# Altium footprint library TSSOP14.PcbLib: 1 footprints
Each footprint in its own frame and in the unit in brackets; x right, y up, seen from the top. Pads: shape width x height; smd on the part's side, far side on the other; paste and mask are expansions set on the pad; w line width, h text height; cw(c..) or ccw(c..) is an arc to the next point about the centre after c.
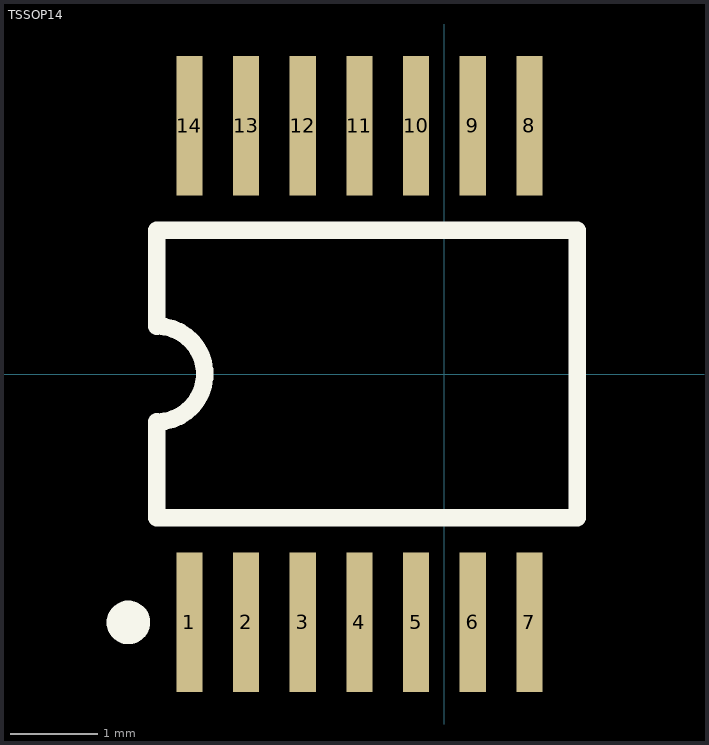
[diagram p0: the footprint, top view; thin cyan lines are the x and y axes]

## TSSOP14 [mm] "Shrink Small Outline; 14 Leads; Body Width 4.4 mm; Pitch 0.65 mm"
height 1.1
pads (14):
  rect 0.3x1.6 smd: 1(-2.925,-2.85) 2(-2.275,-2.85) 3(-1.625,-2.85) 4(-0.975,-2.85) 5(-0.325,-2.85) 6(0.325,-2.85) 7(0.975,-2.85) 8(0.975,2.85) 9(0.325,2.85) 10(-0.325,2.85) 11(-0.975,2.85) 12(-1.625,2.85) 13(-2.275,2.85) 14(-2.925,2.85)
Top Overlay:
  circle w0.25: c-3.625,-2.85 r0.125
  lines w0.2: -3.3,-1.65 -3.3,-0.55 ccw(c-3.3,0) -3.3,0.55 -3.3,1.65 1.524,1.65 1.524,-1.65 -3.3,-1.65
3D body: height 2.65, standoff 0, extent -3.429,-1.905 1.651,1.905